# Altium integrated library PMS9P1B10M2QE.IntLib: 1 symbol
Pins are listed as number, name and electrical type; pins without a type are passive.

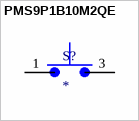
[diagram p0: symbol PMS9P1B10M2QE]

## PMS9P1B10M2QE
designator S?
Pushbutton Switch SPST-NO Standard Through Hole; MF: TE Connectivity ALCOSWITCH Switches; MP: PMS9P1B10M2QE; SnapEDA_Link: https://www.snapeda.com/parts/PMS9P1B10M2QE/TE+Connectivity+ALCOSWITCH+Switches/view-part/?ref=snap; Package: None; Value: *; Check_prices: https://www.snapeda.com/parts/PMS9P1B10M2QE/TE+Connectivity+ALCOSWITCH+Switches/view-part/?ref=eda
footprint SW_PMS9P1B10M2QE
pins: 1, 3